# EAGLE library part LUXEON_REBEL+COOLPAD (library led-lumiled)
LUXEON REBEL LED with cooling pads Display Layer Refence in Board for more information Stop and Cream Mask defined by Luxeon Rebel Footprint _customer.dxf
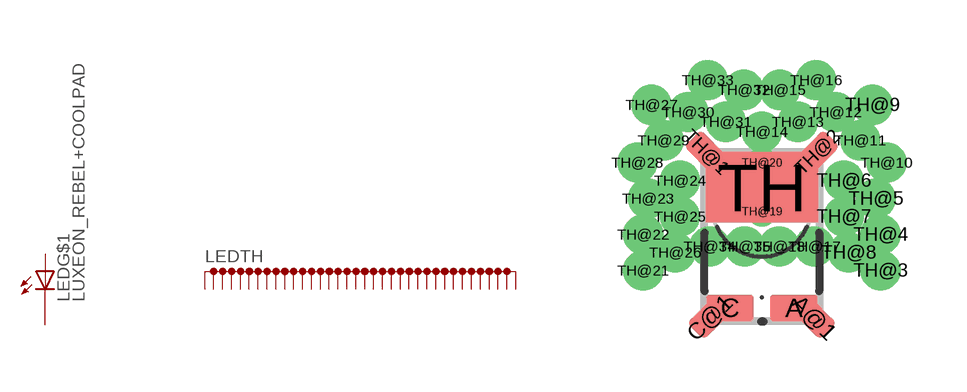
[diagram p1: symbol with the pads of LUXEON_REBEL+COOLPAD; footprint LUXEON_REBEL+COOLPAD]

Designator prefix LED; gates TH=LUXEON_THERMAL36 G$1=LED-A2C2

## LUXEON_REBEL+COOLPAD (OC_FARNELL: unknown; OC_NEWARK: unknown)  [LUXEON_REBEL+COOLPAD]
A  G$1:A  pas
A@1  G$1:A  pas
C  G$1:C  pas
C@1  G$1:C  pas
TH  TH:TH  pwr
TH@1  TH:TH  pwr
TH@2  TH:TH  pwr
TH@3  TH:TH  pwr
TH@4  TH:TH  pwr
TH@5  TH:TH  pwr
TH@6  TH:TH  pwr
TH@7  TH:TH  pwr
TH@8  TH:TH  pwr
TH@9  TH:TH  pwr
TH@10  TH:TH  pwr
TH@11  TH:TH  pwr
TH@12  TH:TH  pwr
TH@13  TH:TH  pwr
TH@14  TH:TH  pwr
TH@15  TH:TH  pwr
TH@16  TH:TH  pwr
TH@17  TH:TH  pwr
TH@18  TH:TH  pwr
TH@19  TH:TH  pwr
TH@20  TH:TH  pwr
TH@21  TH:TH  pwr
TH@22  TH:TH  pwr
TH@23  TH:TH  pwr
TH@24  TH:TH  pwr
TH@25  TH:TH  pwr
TH@26  TH:TH  pwr
TH@27  TH:TH  pwr
TH@28  TH:TH  pwr
TH@29  TH:TH  pwr
TH@30  TH:TH  pwr
TH@31  TH:TH  pwr
TH@32  TH:TH  pwr
TH@33  TH:TH  pwr
TH@34  TH:TH  pwr
TH@35  TH:TH  pwr

## Footprint LUXEON_REBEL+COOLPAD (pad centres in mm)
LUXEON REBEL LED with cooling pads Please read also description in Layer 49 Reference. Stop and Cream Mask defined by Footprint Rebel customer_070207.dxf
smd 1.2 x 0.67: A 0.8,-2.51; C -0.8,-2.51
smd 1 x 0.6 rotated 315: A@1 1.31,-2.75
smd 1 x 0.6 rotated 225: C@1 -1.31,-2.75
smd 2.8 x 1.77: TH 0,0.51
smd 1 x 0.6 rotated 135: TH@1 -1.39,1.39
smd 1 x 0.6 rotated 45: TH@2 1.39,1.39
drill 0.5 pad 0.6: TH@3 2.971,-1.57; TH@4 2.971,-0.67; TH@5 2.85,0.23; TH@6 2.05,0.68; TH@7 2.05,-0.22; TH@8 2.171,-1.12; TH@9 2.764,2.575; TH@10 3.116,1.13; TH@11 2.461,1.687; TH@12 1.844,2.394; TH@13 0.9,2.15; TH@14 0,1.9; TH@15 0.45,2.95; TH@16 1.356,3.196; TH@17 1.31,-0.97; TH@18 0.43,-0.97; TH@21 -2.971,-1.57; TH@22 -2.971,-0.67; TH@23 -2.85,0.23; TH@24 -2.05,0.68; TH@25 -2.05,-0.22; TH@26 -2.171,-1.12; TH@27 -2.764,2.575; TH@28 -3.116,1.13; TH@29 -2.461,1.687; TH@30 -1.844,2.394; TH@31 -0.9,2.15; TH@32 -0.45,2.95; TH@33 -1.356,3.196; TH@34 -1.31,-0.97; TH@35 -0.43,-0.97
drill 0.25 pad 0.4: TH@19 0,-0.095; TH@20 0,1.125